# Altium schematic symbol library Testpin.SchLib: 1 symbol
Pins are listed as number, name and electrical type; pins without a type are passive.

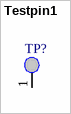
[diagram p0: symbol Testpin1]

## Testpin1
designator TP?, comment Testpin  (value not drawn)  (no BOM)
footprint PCBComponent_1
pins: 1 TestPin